# Altium footprint library Wuerth_Elektronik.PCBLIB: 1 footprints
Each footprint in its own frame and in the unit in brackets; x right, y up, seen from the top. Pads: shape width x height; smd on the part's side, far side on the other; paste and mask are expansions set on the pad; w line width, h text height; cw(c..) or ccw(c..) is an arc to the next point about the centre after c.
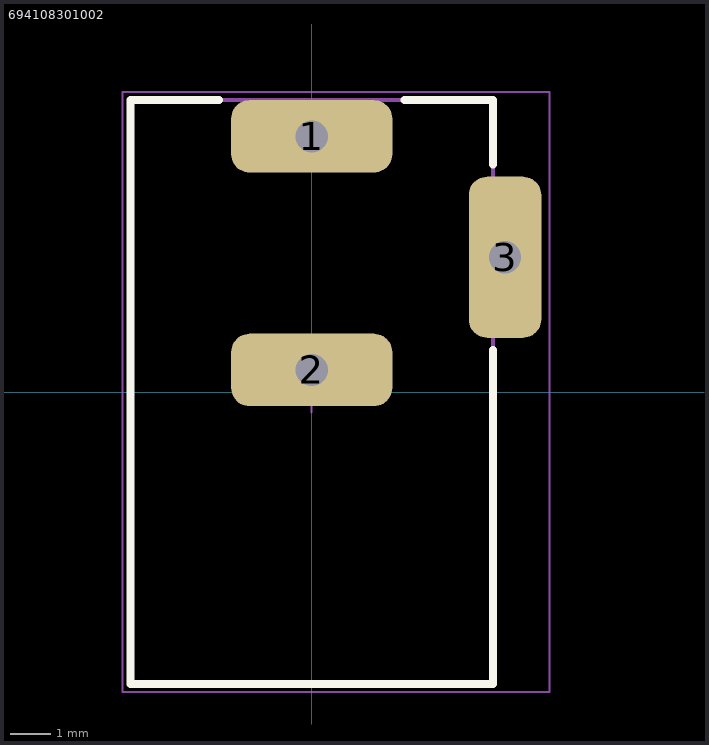
[diagram p0: the footprint, top view; thin cyan lines are the x and y axes]

## 694108301002 [mm] "DC Power Jack Right Angled(6.4)"
height 10.7
pads (3):
  rrect50% 4x1.8 hole 0.8 square: 1(0,6.35) 2(0,0.55)
  rrect50% 1.8x4 hole 0.8 square: 3(4.8,3.35)
Top Overlay:
  lines w0.2: -2.3,7.25 -4.5,7.25 -4.5,-7.25 4.5,-7.25 4.5,1.05 ; 2.3,7.25 4.5,7.25 4.5,5.65
Top Assembly:
  lines w0.1: -4.5,-7.25 -4.5,7.25 4.5,7.25 4.5,-7.25 -4.5,-7.25
Top Courtyard:
  lines w0.05: -4.7,-7.45 5.9,-7.45 5.9,7.45 -4.7,7.45 -4.7,-7.45
Top Designator:
  text ".Designator" at -2.098,-4.5 h1.5
Top Component Center:
  lines w0.05: -0.5,0 0.5,0 ; 0,-0.5 0,0.5
3D body "694108301002.stp": height 10.75, standoff -3.75, extent -4.5,-7.25 5,7.25